# EAGLE library part PL-2303HXD (library FansElectronics-IC-PL2303)
PL-2303HX Edition (Chip Rev D) USB to Serial Bridge Controller (NEW VERSION 2013) http://www.prolific.com.tw/UserFiles/files/ds_pl2303HXD_v1_4_4.pdf PL-2303HX (Chip Rev D) or PL-2303HXD provides a convenient solution for connecting an RS232-like full-duplex asynchronous serial device to any Universal Serial Bus (USB) capable host. PL-2303HXD highly compatible drivers could simulate the traditional COM port on most operating systems allowing the existing applications based on COM port to easily migrate and be made USB ready. By taking advantage of USB bulk transfer mode, large data buffers, and automatic flow control, PL-2303HXD is capable of achieving higher throughput compared to traditional UART (Universal Asynchronous Receiver Transmitter) ports. When real RS232 signaling is not required, baud rate higher than 115200 bps could be used for even higher performance. The flexible baud rate generator of PL-2303HXD could be programmed to generate any rate between 75 bps to 12M bps.
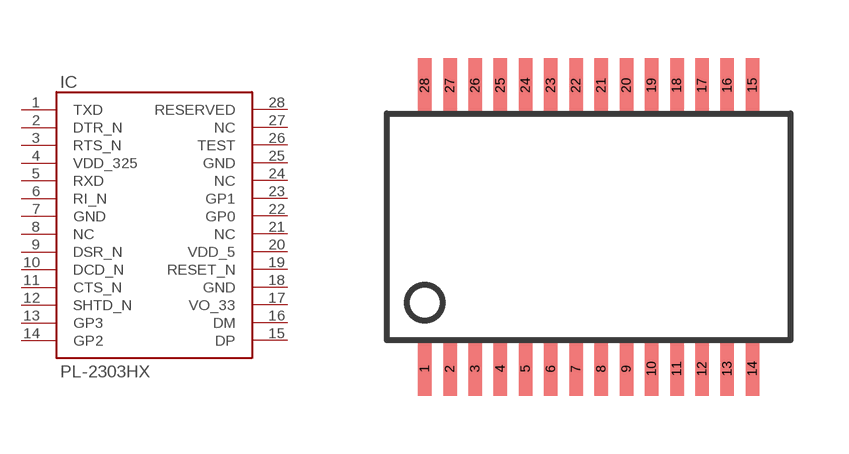
[diagram p1: symbol with the pads of SSOP28; footprint SSOP28]

Designator prefix IC

## PL-2303HXD  [SSOP28]
1  TXD
2  DTR_N
3  RTS_N
4  VDD_325
5  RXD
6  RI_N
7  GND
8  NC
9  DSR_N
10  DCD_N
11  CTS_N
12  SHTD_N
13  GP3
14  GP2
15  DP
16  DM
17  VO_33
18  GND
19  RESET_N
20  VDD_5
21  NC
22  GP0
23  GP1
24  NC
25  GND
26  TEST
27  NC
28  RESERVED

## Footprint SSOP28 (pad centres in mm)
smd 0.348 x 1.397: 1 -4.225,-3.656; 2 -3.575,-3.656; 3 -2.925,-3.656; 4 -2.275,-3.656; 5 -1.625,-3.656; 6 -0.975,-3.656; 7 -0.325,-3.656; 8 0.325,-3.656; 9 0.975,-3.656; 10 1.625,-3.656; 11 2.275,-3.656; 12 2.925,-3.656; 13 3.575,-3.656; 14 4.225,-3.656; 15 4.225,3.656; 16 3.575,3.656; 17 2.925,3.656; 18 2.275,3.656; 19 1.625,3.656; 20 0.975,3.656; 21 0.325,3.656; 22 -0.325,3.656; 23 -0.975,3.656; 24 -1.625,3.656; 25 -2.275,3.656; 26 -2.925,3.656; 27 -3.575,3.656; 28 -4.225,3.656